# Altium schematic symbol library FT230XQ-R.SchLib: 1 symbol
Pins are listed as number, name and electrical type; pins without a type are passive.

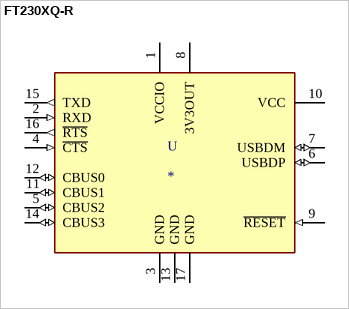
[diagram p0: symbol FT230XQ-R]

## FT230XQ-R
designator U
USB Bridge, USB to UART USB 2.0 UART Interface 16-QFN (4x4); MP: FT230XQ-R; MF: FTDI,; Availability: Unavailable; Value: *; DigiKey-Purchase-URL: https://snapeda.com/shop?store=DigiKey&id=51347; Package: QFN-16 FTDI; Price: None; SnapEDA_Link: https://www.snapeda.com/parts/FT230XQ-R/FTDI,%20Future%20Technology%20Devices%20International%20Ltd/view-part/51347/?ref=snap
footprint QFN65P400X400X80-17N
pins: 1 VCCIO (power), 2 RXD (in), 3 GND (power), 4 ~{CTS} (in), 5 CBUS2 (io), 6 USBDP (io), 7 USBDM (io), 8 3V3OUT (power), 9 ~{RESET} (in), 10 VCC (power), 11 CBUS1 (io), 12 CBUS0 (io), 13 GND (power), 14 CBUS3 (io), 15 TXD (out), 16 ~{RTS} (out), 17 GND (power)